# EAGLE library part BMD-330-A-R (library BMD-330-A-R)
MOD BLE 5.0 NORDIC NRF52810 SOC Source: Datasheet <https://www.u-blox.com/sites/default/files/BMD-330_DataSheet_(UBX-19033352).pdf>
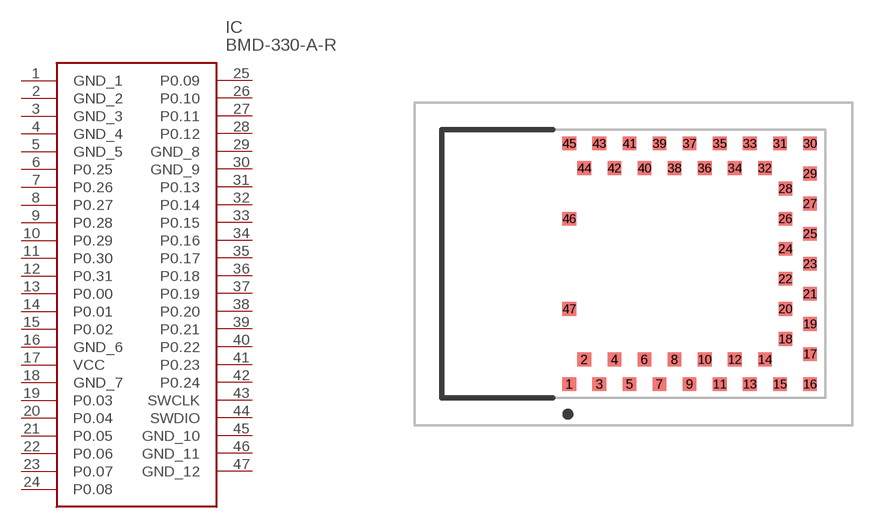
[diagram p0: symbol with the pads of BMD330AR; footprint BMD330AR]

Designator prefix IC

## BMD-330-A-R (Description: MOD BLE 5.0 NORDIC NRF52810 SOC; Height: 2mm; Manufacturer_Name: u-blox; Manufacturer_Part_Number: BMD-330-A-R; Mouser_Part_Number: 377-BMD-330-A-R; Mouser_Price-Stock: https://www.mouser.co.uk/ProductDetail/u-blox/BMD-330-A-R?qs=wd5RIQLrsJi3NeBKYgZ5TQ%3D%3D)  [BMD330AR]
1  GND_1
2  GND_2
3  GND_3
4  GND_4
5  GND_5
6  P0.25
7  P0.26
8  P0.27
9  P0.28
10  P0.29
11  P0.30
12  P0.31
13  P0.00
14  P0.01
15  P0.02
16  GND_6
17  VCC
18  GND_7
19  P0.03
20  P0.04
21  P0.05
22  P0.06
23  P0.07
24  P0.08
25  P0.09
26  P0.10
27  P0.11
28  P0.12
29  GND_8
30  GND_9
31  P0.13
32  P0.14
33  P0.15
34  P0.16
35  P0.17
36  P0.18
37  P0.19
38  P0.20
39  P0.21
40  P0.22
41  P0.23
42  P0.24
43  SWCLK
44  SWDIO
45  GND_10
46  GND_11
47  GND_12

## Footprint BMD330AR (pad centres in mm)
BMD-330-A-R-2
smd 0.5 x 0.5: 1 0,-4.4; 2 0.55,-3.5; 3 1.1,-4.4; 4 1.65,-3.5; 5 2.2,-4.4; 6 2.75,-3.5; 7 3.3,-4.4; 8 3.85,-3.5; 9 4.4,-4.4; 10 4.95,-3.5; 11 5.5,-4.4; 12 6.05,-3.5; 13 6.6,-4.4; 14 7.15,-3.5; 15 7.7,-4.4; 16 8.8,-4.4; 17 8.8,-3.3; 18 7.9,-2.75; 19 8.8,-2.2; 20 7.9,-1.65; 21 8.8,-1.1; 22 7.9,-0.55; 23 8.8,0; 24 7.9,0.55; 25 8.8,1.1; 26 7.9,1.65; 27 8.8,2.2; 28 7.9,2.75; 29 8.8,3.3; 30 8.8,4.4; 31 7.7,4.4; 32 7.15,3.5; 33 6.6,4.4; 34 6.05,3.5; 35 5.5,4.4; 36 4.95,3.5; 37 4.4,4.4; 38 3.85,3.5; 39 3.3,4.4; 40 2.75,3.5; 41 2.2,4.4; 42 1.65,3.5; 43 1.1,4.4; 44 0.55,3.5; 45 0,4.4; 46 0,1.65; 47 0,-1.65